# Altium schematic symbol library LTC2949.SchLib: 3 symbols
Pins are listed as number, name and electrical type; pins without a type are passive.

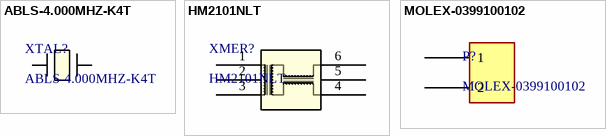
[diagram p0: symbols ABLS-4.000MHZ-K4T to MOLEX-0399100102]

## ABLS-4.000MHZ-K4T
designator XTAL?
No Description Available; Mfr_Name: Abracon; Copyright: Copyright (C) 2021 Ultra Librarian. All rights reserved.; Manufacturer_Part_Number: ABLS-4.000MHZ-K4T; RefDes: RefDes; Type: DEV
footprint XTAL_ABLS_ABR
pins: 1, 2

## HM2101NLT
designator XMER?
No Description Available; Mfr_Name: Pulse Electronics Corporation; Copyright: Copyright (C) 2021 Ultra Librarian. All rights reserved.; Manufacturer_Part_Number: HM2101NLT; Digi-Key_Part_Number_1: 1840-1033-2-ND; Digi-Key_Part_Number_2: 1840-1033-1-ND; Digi-Key_Part_Number_3: 1840-1033-6-ND; RefDes: RefDes; Type: DEV
footprint HM2101NLT_PUL
pins: 1, 2, 3, 4, 5, 6

## MOLEX-0399100102
designator P?
TERM BLK 2P SIDE ENT 10.16MM PCB
pins: 1, 2